# EAGLE library part TDA8592J (library Audio-Power-amlifier V.2.0)
The TDA8592J is a complementary quad BTL audio power amplifier made in BCDMOS technology. It contains four independent amplifiers in Bridge Tied Load (BTL) configuration. Through the I2C-bus, the diagnostic information of each amplifier and speaker can be read separately
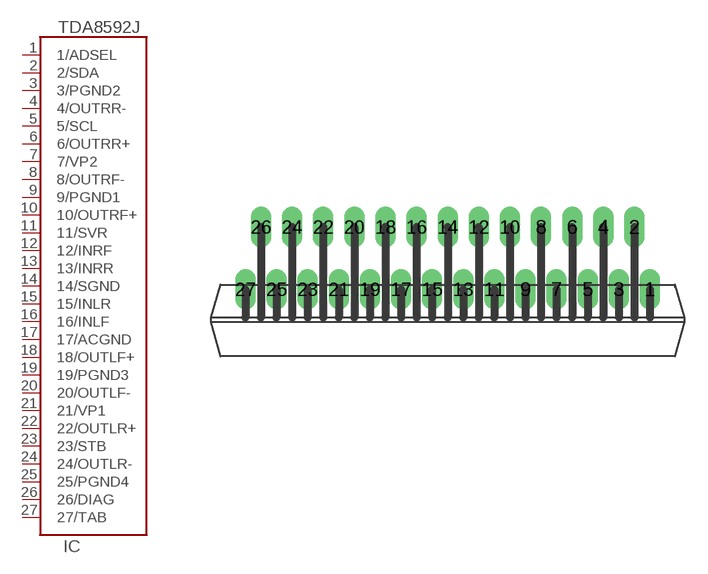
[diagram p225: symbol with the pads of SOT767-1; footprint SOT767-1]

Designator prefix IC

## TDA8592J  [SOT767-1]
1  1/ADSEL
2  2/SDA
3  3/PGND2  pwr
4  4/OUTRR-  out
5  5/SCL  in
6  6/OUTRR+  out
7  7/VP2  pwr
8  8/OUTRF-  out
9  9/PGND1  pwr
10  10/OUTRF+  out
11  11/SVR
12  12/INRF  in
13  13/INRR  in
14  14/SGND  pwr
15  15/INLR  in
16  16/INLF  in
17  17/ACGND  pwr
18  18/OUTLF+  out
19  19/PGND3  pwr
20  20/OUTLF-  out
21  21/VP1  pwr
22  22/OUTLR+  out
23  23/STB  in
24  24/OUTLR-  out
25  25/PGND4  pwr
26  26/DIAG  out
27  27/TAB

## Footprint SOT767-1 (pad centres in mm)
drill 0.8 long: 1 13,0; 2 12,4; 3 11,0; 4 10,4; 5 9,0; 6 8,4; 7 7,0; 8 6,4; 9 5,0; 10 4,4; 11 3,0; 12 2,4; 13 1,0; 14 0,4; 15 -1,0; 16 -2,4; 17 -3,0; 18 -4,4; 19 -5,0; 20 -6,4; 21 -7,0; 22 -8,4; 23 -9,0; 24 -10,4; 25 -11,0; 26 -12,4; 27 -13,0